# EAGLE library part PIC16F690-X/P (library pic16f690_p)
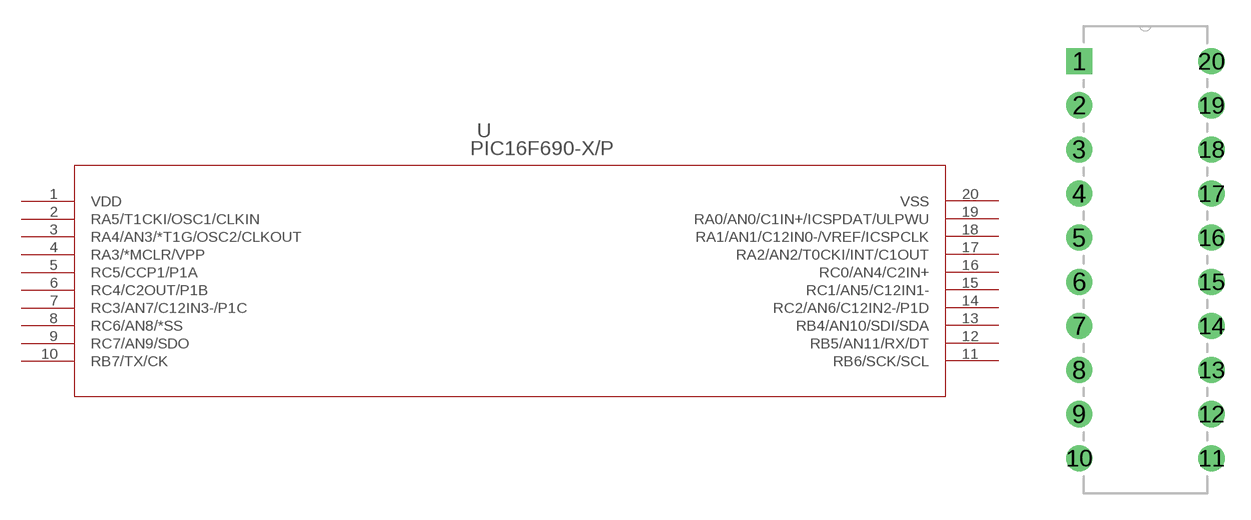
[diagram p0: symbol with the pads of PDIP20_300MC; footprint PDIP20_300MC]

Designator prefix -

## PIC16F690-X/P  [PDIP20_300MC]
1  VDD  pas
2  RA5/T1CKI/OSC1/CLKIN  pas
3  RA4/AN3/*T1G/OSC2/CLKOUT  pas
4  RA3/*MCLR/VPP  pas
5  RC5/CCP1/P1A  pas
6  RC4/C2OUT/P1B  pas
7  RC3/AN7/C12IN3-/P1C  pas
8  RC6/AN8/*SS  pas
9  RC7/AN9/SDO  pas
10  RB7/TX/CK  pas
11  RB6/SCK/SCL  pas
12  RB5/AN11/RX/DT  pas
13  RB4/AN10/SDI/SDA  pas
14  RC2/AN6/C12IN2-/P1D  pas
15  RC1/AN5/C12IN1-  pas
16  RC0/AN4/C2IN+  pas
17  RA2/AN2/T0CKI/INT/C1OUT  pas
18  RA1/AN1/C12IN0-/VREF/ICSPCLK  pas
19  RA0/AN0/C1IN+/ICSPDAT/ULPWU  pas
20  VSS  pas

## Footprint PDIP20_300MC (pad centres in mm)
drill 0.991 square: 1 -7.62,22.86
drill 0.991: 2 -7.62,20.32; 3 -7.62,17.78; 4 -7.62,15.24; 5 -7.62,12.7; 6 -7.62,10.16; 7 -7.62,7.62; 8 -7.62,5.08; 9 -7.62,2.54; 10 -7.62,0; 11 0,0; 12 0,2.54; 13 0,5.08; 14 0,7.62; 15 0,10.16; 16 0,12.7; 17 0,15.24; 18 0,17.78; 19 0,20.32; 20 0,22.86